# Altium footprint library Pcb_cardio2.PcbLib: 2 footprints
Each footprint in its own frame and in the unit in brackets; x right, y up, seen from the top. Pads: shape width x height; smd on the part's side, far side on the other; paste and mask are expansions set on the pad; w line width, h text height; cw(c..) or ccw(c..) is an arc to the next point about the centre after c.
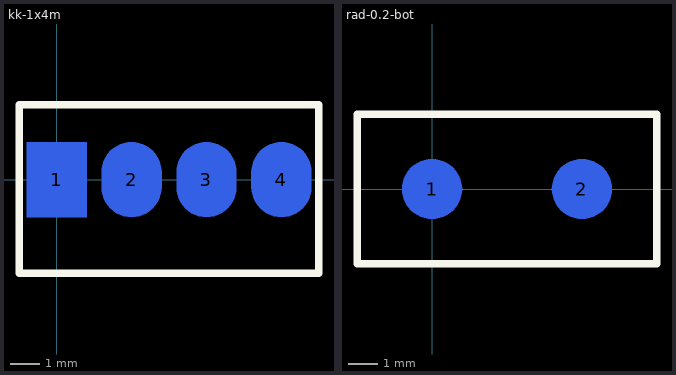
[diagram p0: the footprints below, top view; thin cyan lines are the x and y axes]

## kk-1x4m [mil]
pads (4):
  rect 80x100 smd far side: 1(0,0)
  oval 80x100 smd far side: 2(100,0) 3(200,0) 4(300,0)
Top Layer:
  circle w20: c0,0 r26
  circle w20: c100,0 r26
  circle w20: c200,0 r26
  circle w20: c300,0 r26
Top Overlay:
  lines w10: -50,-125 -50,100 350,100 350,-125 -50,-125

## rad-0.2-bot [mil]
pads (2):
  round 80 smd far side: 1(0,0) 2(200,0)
Top Layer:
  circle w20: c0,0 r26
  circle w20: c200,0 r26
Top Overlay:
  lines w10: -100,-100 -100,100 300,100 300,-100 -100,-100